# Altium schematic symbol library SMCJ5.0A(DO-214AB).SchLib: 1 symbol
Pins are listed as number, name and electrical type; pins without a type are passive.

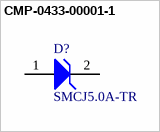
[diagram p0: symbol CMP-0433-00001-1]

## CMP-0433-00001-1
designator D?, comment SMCJ5.0A-TR
SMCJ Transil Series Zener Diode, 5V, 5W; Manufacturer: STMicroelectronics; Junction Temperature: -55 to 150 degC; DatasheetVersion: Rev. 8, 07/2010; ComponentLink1URL: http://www.st.com; PartNumber: SMCJ5.0A-TR; ComponentLink2Description: Datasheet; Mounting Technology: Surface Mount; PackageReference: SMC; PackageDescription: 2-Pin C-Bend SMT Diode, 7.9 x 5.9 mm Body; ComponentLink2URL: http://www.st.com/st-web-ui/static/active/en/resource/technical/document/datasheet/CD00001367.pdf; ComponentLink1Description: Manufacturer URL
footprint STM-SMC_V (SMT Diode, 2 C-Bend Leads, Body 7.9x5.9mm)
pins: 1 A, 2 K